# EAGLE library part LMR14010A (library SparkFun-IC-Power)
LMR14010A Buck Regulator 1A Output The LMR14010A is a PWM DC-to-DC buck (stepdown) regulator. With a wide input range from 4 V to 40 V, it is suitable for a wide range of applications from industrial to automotive. An ultra-low 1-µA shutdown current prolongs battery life. Operating frequency is fixed at 0.7 MHz, allowing the use of small external components while minimizing output ripple voltage. Soft-start and compensation circuits are implemented internally, limiting the number of external components. The LMR14010A is optimized for up to 1-A load current. It has a 0.765-V nominal feedback voltage
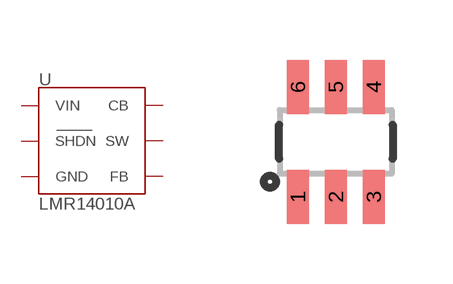
[diagram p7: symbol with the pads of SOT23-6; footprint SOT23-6]

Designator prefix U

## LMR14010A (PROD_ID: IC-15089)  [SOT23-6]
1  CB  in
2  GND  pwr
3  FB  in
4  SHDN  in
5  VIN  pwr
6  SW  pwr

## Footprint SOT23-6 (pad centres in mm)
SOT23 (6 pin) Mechanical Layout Landing Pad: 0.55mm X 1.395mm Landing Pad Pitch: 0.95mm 2.7mm vertical distance between pads
smd 0.55 x 1.35: 1 -0.95,-1.375; 2 0,-1.375; 3 0.95,-1.375; 4 0.95,1.375; 5 0,1.375; 6 -0.95,1.375